# Altium schematic symbol library 第六届省赛原理图.SchLib: 3 symbols
Pins are listed as number, name and electrical type; pins without a type are passive.

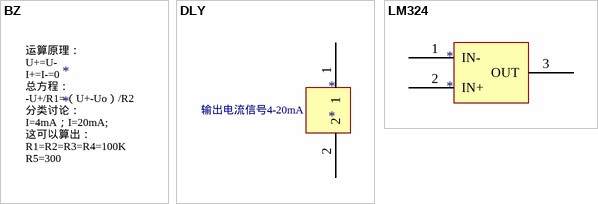
[diagram p0: symbols BZ to LM324]

## BZ
designator *
text: 运算原理： / U+=U- / I+=I-=0 / 总方程： / -U+/R1=（U+-Uo）/R2 / 分类讨论： / I=4mA；I=20mA; / 这可以算出： / R1=R2=R3=R4=100K / R5=300

## DLY
designator *
pins: 1, 2
text: 输出电流信号4-20mA

## LM324
designator *
pins: 1 IN-, 2 IN+, 3 OUT, 4 VCC (power) hidden to VCC, 5 GND (power) hidden to VCC